# EAGLE library part MIKROBUS (library lieven)
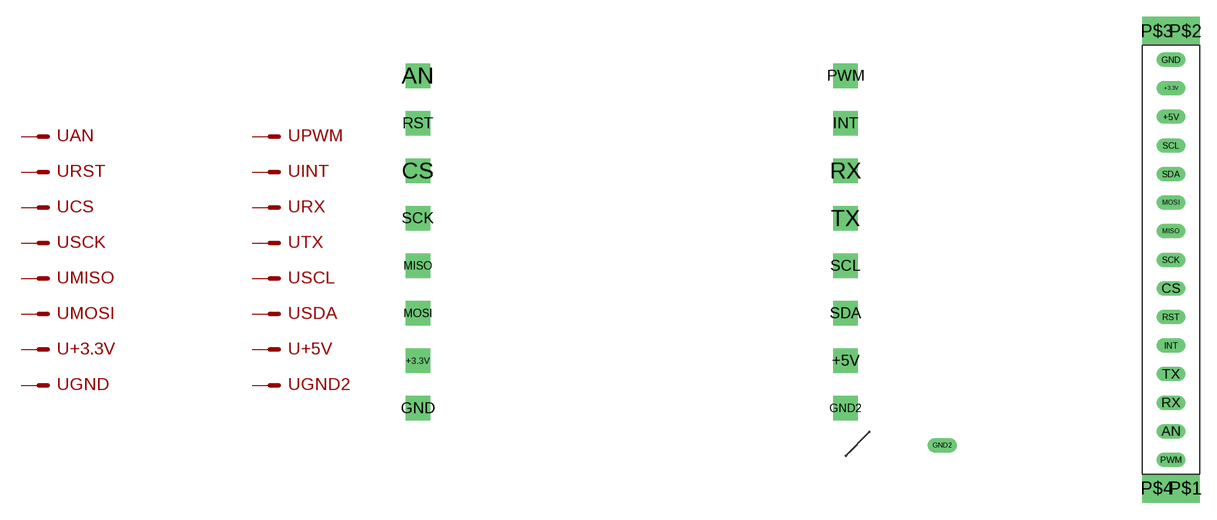
[diagram p2: symbol with the pads of MIKROBUS; footprints MIKROBUS, MIKROBUS_SIL]

Designator prefix -; gates PWM=M INT=M RX=M TX=M SCL=M SDA=M +5V=M GND2=M AN=M RST=M CS=M SCK=M MISO=M MOSI=M +3.3V=M GND=M

## MIKROBUS900MIL  [MIKROBUS]
+3.3V  +3.3V:S  pas
+5V  +5V:S  pas
AN  AN:S  pas
CS  CS:S  pas
GND  GND:S  pas
GND2  GND2:S  pas
INT  INT:S  pas
MISO  MISO:S  pas
MOSI  MOSI:S  pas
PWM  PWM:S  pas
RST  RST:S  pas
RX  RX:S  pas
SCK  SCK:S  pas
SCL  SCL:S  pas
SDA  SDA:S  pas
TX  TX:S  pas

## MIKROBUSSIL, MIKROBUSSILSIL  [MIKROBUS_SIL]
Pads as for MIKROBUS

## MIKROBUSDIL  [MIKROBUS_DIL]
Pads as for MIKROBUS

## Footprint MIKROBUS (pad centres in mm)
drill 0.8 square: +3.3V 0,2.54; +5V 22.86,2.54; AN 0,17.78; CS 0,12.7; GND 0,0; GND2 22.86,0; INT 22.86,15.24; MISO 0,7.62; MOSI 0,5.08; PWM 22.86,17.78; RST 0,15.24; RX 22.86,12.7; SCK 0,10.16; SCL 22.86,7.62; SDA 22.86,5.08; TX 22.86,10.16

## Footprint MIKROBUS_SIL (pad centres in mm)
drill 0.8 long: +3.3V 0,15.24; +5V 0,12.7; AN 0,-15.24; CS 0,-2.54; GND 0,17.78; GND2 -20.32,-16.51; INT 0,-7.62; MISO 0,2.54; MOSI 0,5.08; PWM 0,-17.78; RST 0,-5.08; RX 0,-12.7; SCK 0,0; SCL 0,10.16; SDA 0,7.62; TX 0,-10.16
drill 0.8 pad 2.54 square: P$1 1.27,-20.32; P$2 1.27,20.32; P$3 -1.27,20.32; P$4 -1.27,-20.32

## Footprint MIKROBUS_DIL (pad centres in mm)
drill 0.8 square: +3.3V 0,2.54; +5V 2.54,2.54; AN 0,17.78; CS 0,12.7; GND 0,0; GND2 2.54,0; INT 2.54,15.24; MISO 0,7.62; MOSI 0,5.08; PWM 2.54,17.78; RST 0,15.24; RX 2.54,12.7; SCK 0,10.16; SCL 2.54,7.62; SDA 2.54,5.08; TX 2.54,10.16